# Altium schematic symbol library XTAL,25.0000MHz,30ppm,6pF,SMD.Schlib: 1 symbol
Pins are listed as number, name and electrical type; pins without a type are passive.

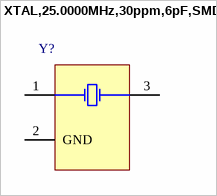
[diagram p0: symbol XTAL,25.0000MHz,30ppm,6pF,SMD]

## XTAL,25.0000MHz,30ppm,6pF,SMD
designator Y?
pins: 1 OSC1, 2 GND, 3 GND